# Altium footprint library RES1210.PcbLib: 1 footprints
Each footprint in its own frame and in the unit in brackets; x right, y up, seen from the top. Pads: shape width x height; smd on the part's side, far side on the other; paste and mask are expansions set on the pad; w line width, h text height; cw(c..) or ccw(c..) is an arc to the next point about the centre after c.
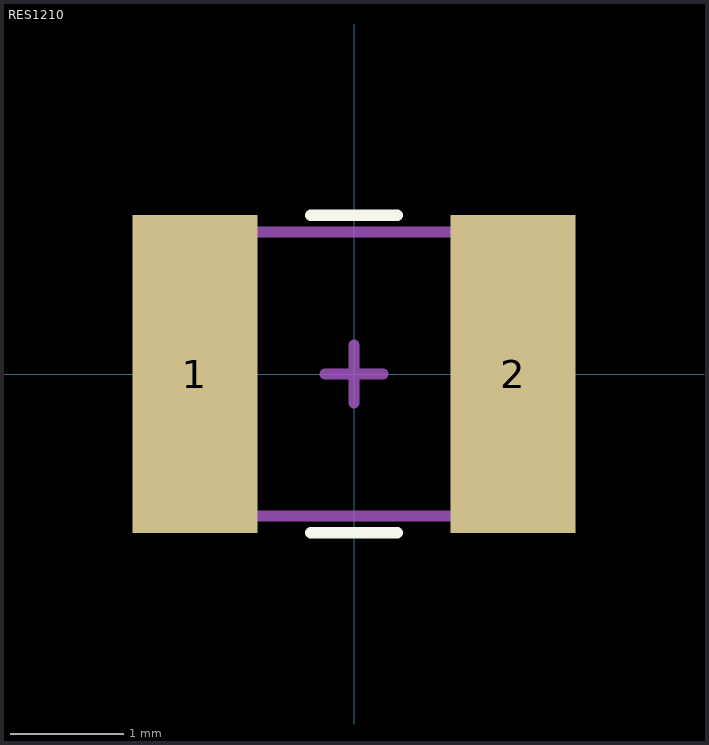
[diagram p0: the footprint, top view; thin cyan lines are the x and y axes]

## RES1210 [mm] "Generic 1210e3 Footprint"
pads (2):
  rect 1.1x2.8 smd mask+0: 1(-1.4,0) 2(1.4,0)
Top Overlay:
  lines w0.1: -0.381,-1.397 0.381,-1.397 ; -0.381,1.397 0.381,1.397
Top Designator:
  text ".Designator" at -7.618,-0.508 h1.52
Mechanical 13:
  lines w0.1: -1.6,-1.25 1.6,-1.25 1.6,1.25 -1.6,1.25 -1.6,-1.25
Mechanical 15:
  lines w0.1: -0.254,0 0.254,0 ; 0,-0.254 0,0.254
3D body "RES1210.stp": height 0.6, standoff 0, extent -1.6,-1.25 1.6,1.25